# Altium footprint library DC, AC, SMPS Boards.PcbLib: 1 footprints
Each footprint in its own frame and in the unit in brackets; x right, y up, seen from the top. Pads: shape width x height; smd on the part's side, far side on the other; paste and mask are expansions set on the pad; w line width, h text height; cw(c..) or ccw(c..) is an arc to the next point about the centre after c.
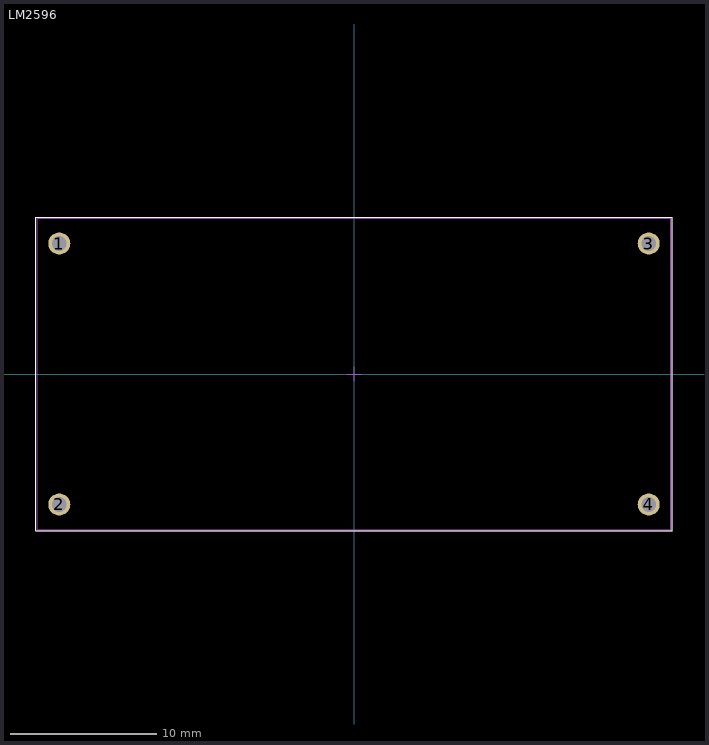
[diagram p0: the footprint, top view; thin cyan lines are the x and y axes]

## LM2596 [mm]
pads (4):
  round 1.5 hole 1: 1(-20.1,8.9) 2(-20.1,-8.9) 3(20.1,8.9) 4(20.1,-8.9)
Top Overlay:
  lines w0.05: -21.7,-10.7 21.7,-10.7 21.7,10.7 -21.7,10.7 -21.7,-10.7
Top 3D Body:
  lines w0.05: -21.601,-10.625 21.6,-10.625 21.6,10.626 -21.601,10.626 -21.601,-10.625
Top Component Center:
  lines w0.05: -0.5,0 0.5,0 ; 0,-0.5 0,0.5 ; -21.7,-10.7 21.7,-10.7 21.7,10.7 -21.7,10.7 -21.7,-10.7
Top Designator:
  lines w0.05: -21.7,-10.7 -21.7,10.7 21.7,10.7 21.7,-10.7 -21.7,-10.7
  text ".Designator" at 4.782,3.692 h1.52
3D body "1x_Male_Pin_2.54_mm.STEP": height 6.8, standoff -4.3, extent -21.345,7.725 -18.805,10.125
3D body "1x_Male_Pin_2.54_mm.STEP": height 6.8, standoff -4.3, extent -21.345,-10.075 -18.805,-7.675
3D body "1x_Male_Pin_2.54_mm.STEP": height 6.8, standoff -4.3, extent 18.855,-10.075 21.395,-7.675
3D body "1x_Male_Pin_2.54_mm.STEP": height 6.8, standoff -4.3, extent 18.855,7.725 21.395,10.125
3D body "LM2596 DC to DC Buck Converter 3 A.STEP": height 17.85, standoff 2.7, extent -21.6,-10.625 21.6,10.625